# EAGLE library part 74AC299MTC (library Fairchild_By_element14_Batch_1)
8-Input Universal Shift/Storage Register with Common Parallel I/O Pins
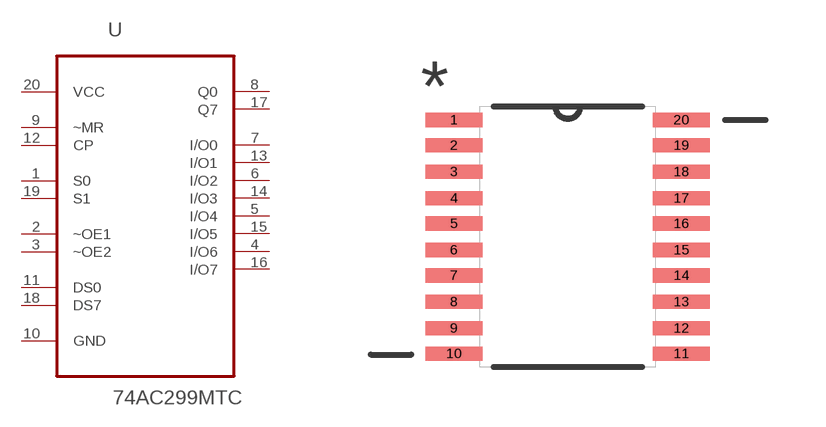
[diagram p24: symbol with the pads of SOP65P640X120-20N; footprint SOP65P640X120-20N]

Designator prefix U

## 74AC299MTC (MPN: 74AC299MTC; OC_FARNELL: -; OC_NEWARK: 78K6226; PACKAGE: TSSOP-20; SUPPLIER: FAIRCHILD SEMICONDUCTOR)  [SOP65P640X120-20N]
1  S0  in
2  ~OE1  in
3  ~OE2  in
4  I/O6
5  I/O4
6  I/O2
7  I/O0
8  Q0  out
9  ~MR  in
10  GND  pas
11  DS0  in
12  CP  in
13  I/O1
14  I/O3
15  I/O5
16  I/O7
17  Q7  out
18  DS7  in
19  S1  in
20  VCC  pwr

## Footprint SOP65P640X120-20N (pad centres in mm)
smd 1.422 x 0.356: 1 -2.845,2.921; 2 -2.845,2.286; 3 -2.845,1.626; 4 -2.845,0.965; 5 -2.845,0.33; 6 -2.845,-0.33; 7 -2.845,-0.965; 8 -2.845,-1.626; 9 -2.845,-2.286; 10 -2.845,-2.921; 11 2.845,-2.921; 12 2.845,-2.286; 13 2.845,-1.626; 14 2.845,-0.965; 15 2.845,-0.33; 16 2.845,0.33; 17 2.845,0.965; 18 2.845,1.626; 19 2.845,2.286; 20 2.845,2.921